# EAGLE library part DISP_SEGMENT_STARBURST_COMMONCATHODE_2VCC (library halcyonmod_Optoelectronics)
Starburst Segment Display - Common Cathode 2.3" Red Alphanumeric LED Display - BL-S230B-12
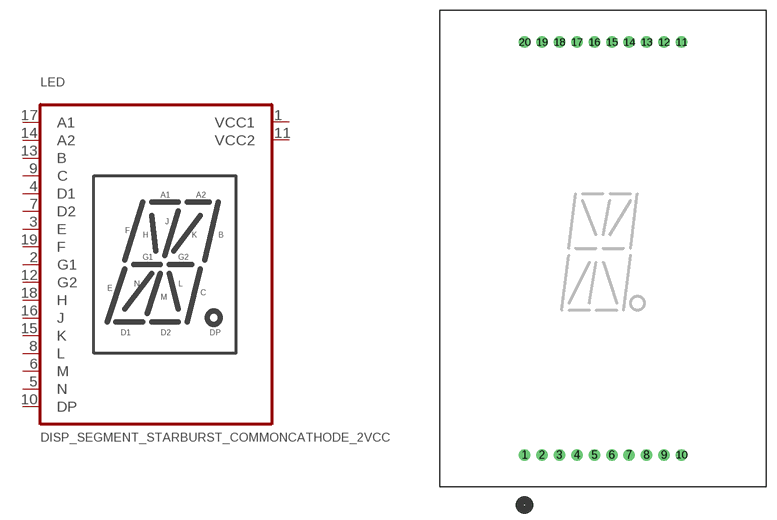
[diagram p11: symbol with the pads of SEGMENT_STARBURST_BL-S230B-12; footprint SEGMENT_STARBURST_BL-S230B-12]

Designator prefix LED

## DISP_SEGMENT_STARBURST_COMMONCATHODE_2VCCBLS230B12  [SEGMENT_STARBURST_BL-S230B-12]
1  VCC1  pwr
2  G1
3  E
4  D1
5  N
6  M
7  D2
8  L
9  C
10  DP
11  VCC2  pwr
12  G2
13  B
14  A2
15  K
16  J
17  A1
18  H
19  F

## Footprint SEGMENT_STARBURST_BL-S230B-12 (pad centres in mm)
drill 0.8 pad 1.676: 1 -11.43,-30.1; 2 -8.89,-30.1; 3 -6.35,-30.1; 4 -3.81,-30.1; 5 -1.27,-30.1; 6 1.27,-30.1; 7 3.81,-30.1; 8 6.35,-30.1; 9 8.89,-30.1; 10 11.43,-30.1; 11 11.43,30.1; 12 8.89,30.1; 13 6.35,30.1; 14 3.81,30.1; 15 1.27,30.1; 16 -1.27,30.1; 17 -3.81,30.1; 18 -6.35,30.1; 19 -8.89,30.1; 20 -11.43,30.1